# Altium schematic symbol library Diodes.SchLib: 5 symbols
Pins are listed as number, name and electrical type; pins without a type are passive.

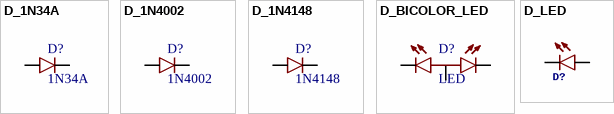
[diagram p0: symbols D_1N34A to D_LED]

## D_1N34A
designator D?, comment 1N34A
PinSpacing: 7.62mm; Price: 0.2; Package: DO-7
footprint DO35_3
footprint DO7_4
pins: A, C

## D_1N4002
designator D?, comment 1N4002
PinSpacing: 7.62mm; Price: 0.01; Package: DO-41
footprint DO41_2
pins: A, C

## D_1N4148
designator D?, comment 1N4148
PinSpacing: 5.08mm; Price: 0.01; Package: DO-35
footprint DO35_2
pins: A, C

## D_BICOLOR_LED
designator D?, comment LED
BICOLOR LED
footprint LED_3MM_BICOLOR
pins: 1, 2, 3

## D_LED
designator D?
LED; Price: 0.01; Package: T1; Dimensions: 3mm
footprint LED_3MM
pins: ANODE A, P$1 C